# EAGLE library part CONNECTOR-40 (library X893)
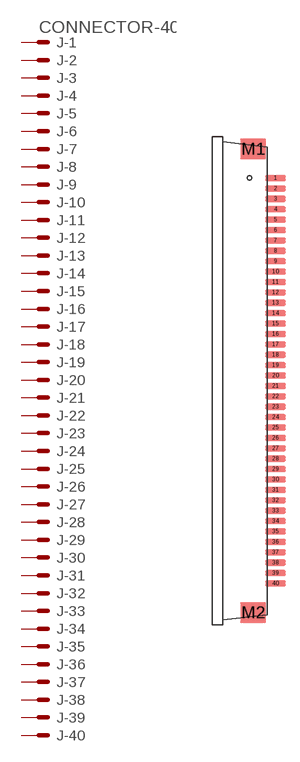
[diagram p230: symbol with the pads of ER-CON40HB-2; footprint ER-CON40HB-2]

Designator prefix J; gates -1=PV -2=P -3=P -4=P -5=P -6=P -7=P -8=P -9=P -10=P -11=P -12=P -13=P -14=P -15=P -16=P -17=P -18=P -19=P -20=P -21=P -22=P -23=P -24=P -25=P -26=P -27=P -28=P -29=P -30=P -31=P -32=P -33=P -34=P -35=P -36=P -37=P -38=P -39=P -40=P

## CONNECTOR-40-ER-CON40HB-2  [ER-CON40HB-2]
1  -1:MSV  pas
2  -2:MS  pas
3  -3:MS  pas
4  -4:MS  pas
5  -5:MS  pas
6  -6:MS  pas
7  -7:MS  pas
8  -8:MS  pas
9  -9:MS  pas
10  -10:MS  pas
11  -11:MS  pas
12  -12:MS  pas
13  -13:MS  pas
14  -14:MS  pas
15  -15:MS  pas
16  -16:MS  pas
17  -17:MS  pas
18  -18:MS  pas
19  -19:MS  pas
20  -20:MS  pas
21  -21:MS  pas
22  -22:MS  pas
23  -23:MS  pas
24  -24:MS  pas
25  -25:MS  pas
26  -26:MS  pas
27  -27:MS  pas
28  -28:MS  pas
29  -29:MS  pas
30  -30:MS  pas
31  -31:MS  pas
32  -32:MS  pas
33  -33:MS  pas
34  -34:MS  pas
35  -35:MS  pas
36  -36:MS  pas
37  -37:MS  pas
38  -38:MS  pas
39  -39:MS  pas
40  -40:MS  pas

## Footprint ER-CON40HB-2 (pad centres in mm)
40 pins 1.0 pitch SMD Datasheet <http://www.buy-display.com/download/connector/ER-CON40HB-2.pdf>
smd 2 x 0.6: 1 6.1,19.5; 2 6.1,18.5; 3 6.1,17.5; 4 6.1,16.5; 5 6.1,15.5; 6 6.1,14.5; 7 6.1,13.5; 8 6.1,12.5; 9 6.1,11.5; 10 6.1,10.5; 11 6.1,9.5; 12 6.1,8.5; 13 6.1,7.5; 14 6.1,6.5; 15 6.1,5.5; 16 6.1,4.5; 17 6.1,3.5; 18 6.1,2.5; 19 6.1,1.5; 20 6.1,0.5; 21 6.1,-0.5; 22 6.1,-1.5; 23 6.1,-2.5; 24 6.1,-3.5; 25 6.1,-4.5; 26 6.1,-5.5; 27 6.1,-6.5; 28 6.1,-7.5; 29 6.1,-8.5; 30 6.1,-9.5; 31 6.1,-10.5; 32 6.1,-11.5; 33 6.1,-12.5; 34 6.1,-13.5; 35 6.1,-14.5; 36 6.1,-15.5; 37 6.1,-16.5; 38 6.1,-17.5; 39 6.1,-18.5; 40 6.1,-19.5
smd 2.5 x 2: M1 3.95,22.3; M2 3.95,-22.3